# EAGLE library part TSW-S-33 (library con-samtec-tsw)
HEADER
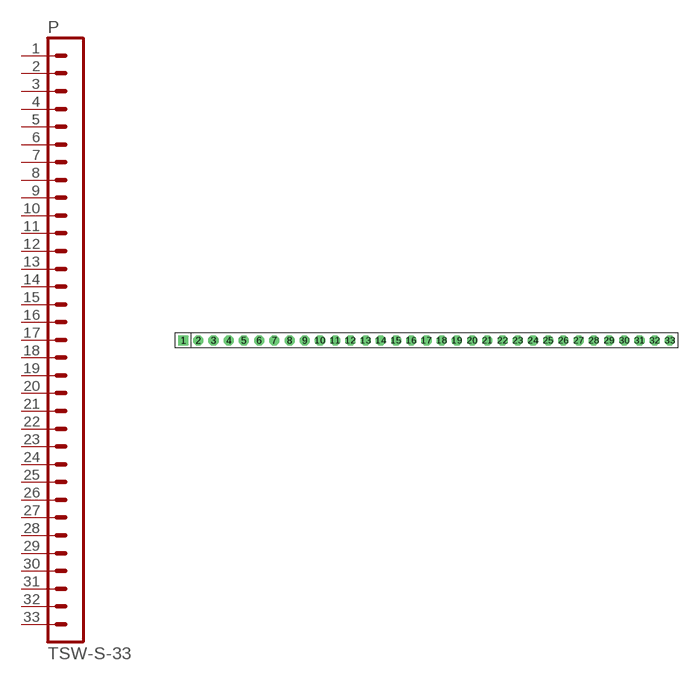
[diagram p27: symbol with the pads of TSW-S-33; footprint TSW-S-33]

Designator prefix P

## TSW-S-33  [TSW-S-33]
1  1  pas
2  2  pas
3  3  pas
4  4  pas
5  5  pas
6  6  pas
7  7  pas
8  8  pas
9  9  pas
10  10  pas
11  11  pas
12  12  pas
13  13  pas
14  14  pas
15  15  pas
16  16  pas
17  17  pas
18  18  pas
19  19  pas
20  20  pas
21  21  pas
22  22  pas
23  23  pas
24  24  pas
25  25  pas
26  26  pas
27  27  pas
28  28  pas
29  29  pas
30  30  pas
31  31  pas
32  32  pas
33  33  pas

## Footprint TSW-S-33 (pad centres in mm)
HEADER
drill 0.914 pad 1.676 square: 1 -40.64,0
drill 0.914 pad 1.676 octagon: 2 -38.1,0; 3 -35.56,0; 4 -33.02,0; 5 -30.48,0; 6 -27.94,0; 7 -25.4,0; 8 -22.86,0; 9 -20.32,0; 10 -17.78,0; 11 -15.24,0; 12 -12.7,0; 13 -10.16,0; 14 -7.62,0; 15 -5.08,0; 16 -2.54,0; 17 0,0; 18 2.54,0; 19 5.08,0; 20 7.62,0; 21 10.16,0; 22 12.7,0; 23 15.24,0; 24 17.78,0; 25 20.32,0; 26 22.86,0; 27 25.4,0; 28 27.94,0; 29 30.48,0; 30 33.02,0; 31 35.56,0; 32 38.1,0; 33 40.64,0